# EAGLE library part WE-RJ45_7499411122A (library 7499511611A_Eagle_WE-RJ45_rev20a)
WE-RJ45 LAN Transformer Characteristics RJ45 Connector with integrated transformer / common mode choke Power over Ethernet up to 50 Watt and speeds up to 10 Gbit/s Available in SMD, THT and THT with USB Compliant with standards: IEEE 802.3u, IEEE 802.3ab, IEEE 802.3af, IEEE 802.3at, IEEE 802.3an and upcoming IEE 802.3bt Applications Suitable for industrial temperatures from –40 °C up to +85 °C Compatible to Industrial Ethernet systems like EtherCAT or Profinet Compliant with most IC’s for Ethernet applications such as Microchip, Texas Instruments, Broadcom, Linear Technology Hubs, Routers, Switches, IP cameras, IoT applications <https://katalog.we-online.com/media/images/v2/o35731v209%20Family_WE-RJ45-LAN.jpg> Details see: https://katalog.we-online.com/en/pbs/WE-LAN-RJ45 Updated by Ella Wu 2019-08-05 2019 (C) Wurth Elektronik
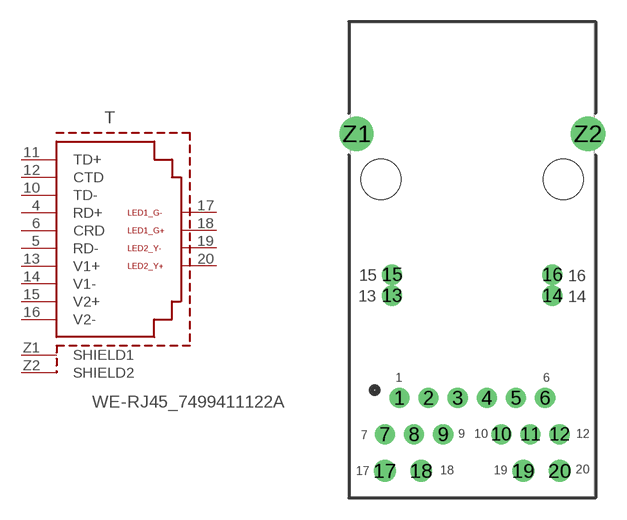
[diagram p22: symbol with the pads of 7499411122A; footprint 7499411122A]

Designator prefix T

## WE-RJ45_7499411122A (DATA-RATE: 10/100 Base-T; DATASHEET-URL: https://www.we-online.com/catalog/datasheet/7499411122A.pdf; LED: yellow-green; MOUNT: THT; PART-NUMBER: 7499411122A; POE: PoE+ (up to 600 mA); PORTS: 1; USB: No)  [7499411122A]
4  RD+
5  RD-
6  CRD
10  TD-
11  TD+
12  CTD
13  V1+
14  V1-
15  V2+
16  V2-
17  LED1_G-  pas
18  LED1_G+  pas
19  LED2_Y-  pas
20  LED2_Y+  pas
Z1  SHIELD1  pwr
Z2  SHIELD2  pwr

## Footprint 7499411122A (pad centres in mm)
WE-RJ45 LAN Transformer 10/100 Base-T
drill 0.9: 1 -5.075,-15.24; 2 -3.045,-15.24; 3 -1.015,-15.24; 4 1.015,-15.24; 5 3.045,-15.24; 6 5.075,-15.24; 7 -6.09,-17.78; 8 -4.06,-17.78; 9 -2.03,-17.78; 10 2.03,-17.78; 11 4.06,-17.78; 12 6.09,-17.78
drill 0.9 pad 1.27: 13 -5.59,-8.12; 14 5.59,-8.12; 15 -5.59,-6.66; 16 5.59,-6.66
drill 1.02: 17 -6.095,-20.32; 18 -3.555,-20.32; 19 3.555,-20.32; 20 6.095,-20.32
drill 1.6: Z1 -8.065,3.18; Z2 8.065,3.18
hole 2.8 at -6.35,0
hole 2.8 at 6.35,0